# EAGLE library part PCA9615 (library PP_DigitalIC)
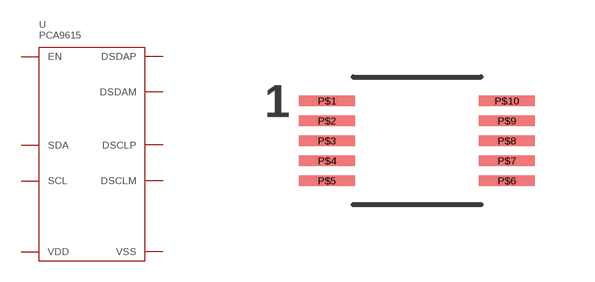
[diagram p45: symbol with the pads of PCA9615DP_TSSOP-10; footprint PCA9615DP_TSSOP-10]

Designator prefix U

## PCA9615DP  [PCA9615DP_TSSOP-10]
P$1  VDD
P$2  SDA
P$3  EN
P$4  SCL
P$5  VSS
P$6  DSCLM
P$7  DSCLP
P$8  DSDAP
P$9  DSDAM
P$10  VDD

## Footprint PCA9615DP_TSSOP-10 (pad centres in mm)
smd 1.4 x 0.27: P$1 -2.25,1; P$2 -2.25,0.5; P$3 -2.25,0; P$4 -2.25,-0.5; P$5 -2.25,-1; P$6 2.25,-1; P$7 2.25,-0.5; P$8 2.25,0; P$9 2.25,0.5; P$10 2.25,1